# Altium schematic symbol library HexaPod - IC.SchLib: 3 symbols
Pins are listed as number, name and electrical type; pins without a type are passive.

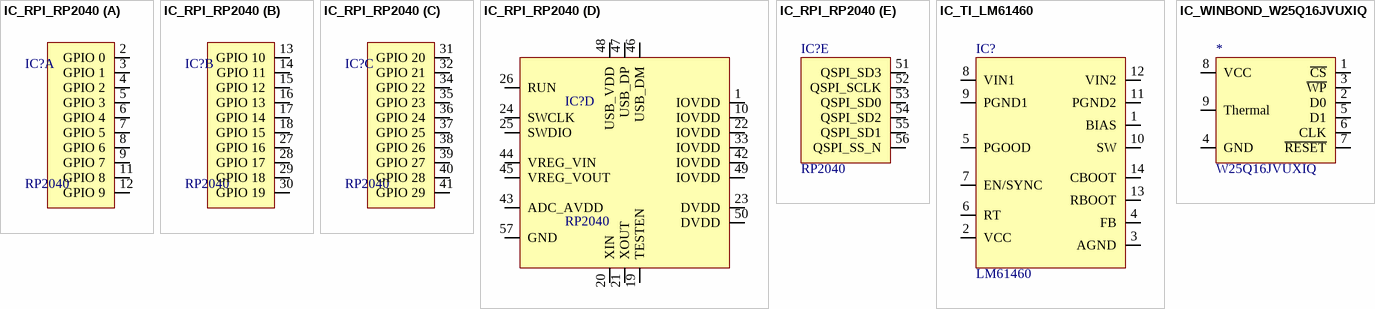
[diagram p0: symbols IC_RPI_RP2040 to IC_WINBOND_W25Q16JVUXIQ]

## IC_RPI_RP2040
designator IC?, comment RP2040
SMD 	ARM Cortex M0+; Part Number: IC_RPI_RP2040; Manufacturer: Raspberry Pi; Manufacturer Part Number: SC0914; Schnittstellen: I2C, SPI, UART, USB; Type: ARM Microcontroller; Pins: 56; Datasheet: https://datasheets.raspberrypi.com/rp2040/rp2040-datasheet.pdf; Operating Temperatur: -40°C - +85°C; Mouser: https://www.mouser.de/ProductDetail/Raspberry-Pi/SC091413?qs=T%252BzbugeAwjhr%252BUbBr3TJcw%3D%3D
footprint RP2040
part A pins: 2 GPIO 0, 3 GPIO 1, 4 GPIO 2, 5 GPIO 3, 6 GPIO 4, 7 GPIO 5, 8 GPIO 6, 9 GPIO 7, 11 GPIO 8, 12 GPIO 9
part B pins: 13 GPIO 10, 14 GPIO 11, 15 GPIO 12, 16 GPIO 13, 17 GPIO 14, 18 GPIO 15, 27 GPIO 16, 28 GPIO 17, 29 GPIO 18, 30 GPIO 19
part C pins: 31 GPIO 20, 32 GPIO 21, 34 GPIO 22, 35 GPIO 23, 36 GPIO 24, 37 GPIO 25, 38 GPIO 26, 39 GPIO 27, 40 GPIO 28, 41 GPIO 29
part D pins: 1 IOVDD, 10 IOVDD, 19 TESTEN, 20 XIN, 21 XOUT, 22 IOVDD, 23 DVDD, 24 SWCLK, 25 SWDIO, 26 RUN, 33 IOVDD, 42 IOVDD, 43 ADC_AVDD, 44 VREG_VIN, 45 VREG_VOUT, 46 USB_DM, 47 USB_DP, 48 USB_VDD, 49 IOVDD, 50 DVDD, 57 GND
part E pins: 51 QSPI_SD3, 52 QSPI_SCLK, 53 QSPI_SD0, 54 QSPI_SD2, 55 QSPI_SD1, 56 QSPI_SS_N

## IC_TI_LM61460
designator IC?, comment LM61460
SMD Vin 3-36V Vout 1v-95% 6A; Part Number: IC_TI_LM61460; Manufacturer: Texas Instrument; Type: Step-Down Converter; Pins: 14; Schnittstellen: -; Datasheet: https://www.ti.com/lit/ds/symlink/lm61460.pdf?ts=1708724412405; Manufacturer Part Number: LM61460; Operating Temperatur: -40°C - +150°C; Mouser: https://www.mouser.de/ProductDetail/Texas-Instruments/LM61460AANRJRR?qs=OlC7AqGiEDmPkRQ45qamnQ%3D%3D
footprint LM61460
pins: 1 BIAS, 2 VCC, 3 AGND, 4 FB, 5 PGOOD, 6 RT, 7 EN/SYNC, 8 VIN1, 9 PGND1, 10 SW, 11 PGND2, 12 VIN2, 13 RBOOT, 14 CBOOT

## IC_WINBOND_W25Q16JVUXIQ
designator *, comment W25Q16JVUXIQ
SMD SPI NOR Flash; Part Number: IC_WINBOND_W25Q16JVUXIQ; Manufacturer: Winbond; Manufacturer Part Number: W25Q16JVUXIQ TRW25Q16JVUXIQ TR; Type: NOR Flash; Pins: 8; Schnittstellen: SPI; Datasheet: https://www.mouser.de/datasheet/2/949/w25q16jv_spi_revg_03222018_plus-1489727.pdf; Operating Temperatur: -40°C - +85°C; Mouser: https://www.mouser.de/ProductDetail/Winbond/W25Q16JVUXIQ-TR?qs=qSfuJ%252Bfl%2Fd7SDdIHLGOd1g%3D%3D
footprint W25Q16JVUXIQ
pins: 1 ~{CS}, 2 D0, 3 ~{WP}, 4 GND, 5 D1, 6 CLK, 7 ~{RESET}, 8 VCC, 9 Thermal